# EAGLE library part ADG918 (library Lasser)
Analog Devices ADG918 Wideband Mux/SPDT Switch DC - 4GHz 43dB Isolation OP1dB = 17dBm
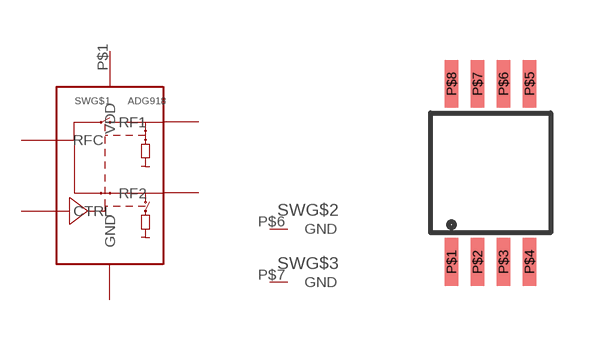
[diagram p13: symbol with the pads of MSOP; footprint MSOP]

Designator prefix SW; gates G$1=SPDT_HF_SWITCH G$2=GND G$3=GND

## ADG918  [MSOP]
P$1  G$1:VDD
P$2  G$1:CTRL
P$3  G$1:GND
P$4  G$1:RFC
P$5  G$1:RF2
P$6  G$2:GND  pwr
P$7  G$3:GND  pwr
P$8  G$1:RF1

## Footprint MSOP (pad centres in mm)
Analog Devices MSOP (RM-8) 8-Lead Mini Small Outline Package
smd 0.34 x 1.19: P$1 -0.975,-2.23; P$2 -0.325,-2.23; P$3 0.325,-2.23; P$4 0.975,-2.23; P$5 0.975,2.23; P$6 0.325,2.23; P$7 -0.325,2.23; P$8 -0.975,2.23